# Altium schematic symbol library SCH - RF - BALUN - MURATA DXW21HN.SchLib: 1 symbol
Pins are listed as number, name and electrical type; pins without a type are passive.

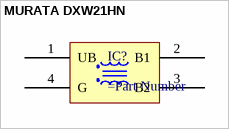
[diagram p0: symbol MURATA DXW21HN]

## MURATA DXW21HN
designator IC?
pins: 1 UB, 2 B1, 3 B2, 4 G